# Altium footprint library MYLIB.PcbLib: 43 footprints (part 2 of 3)
Each footprint in its own frame and in the unit in brackets; x right, y up, seen from the top. Pads: shape width x height; smd on the part's side, far side on the other; paste and mask are expansions set on the pad; w line width, h text height; cw(c..) or ccw(c..) is an arc to the next point about the centre after c.
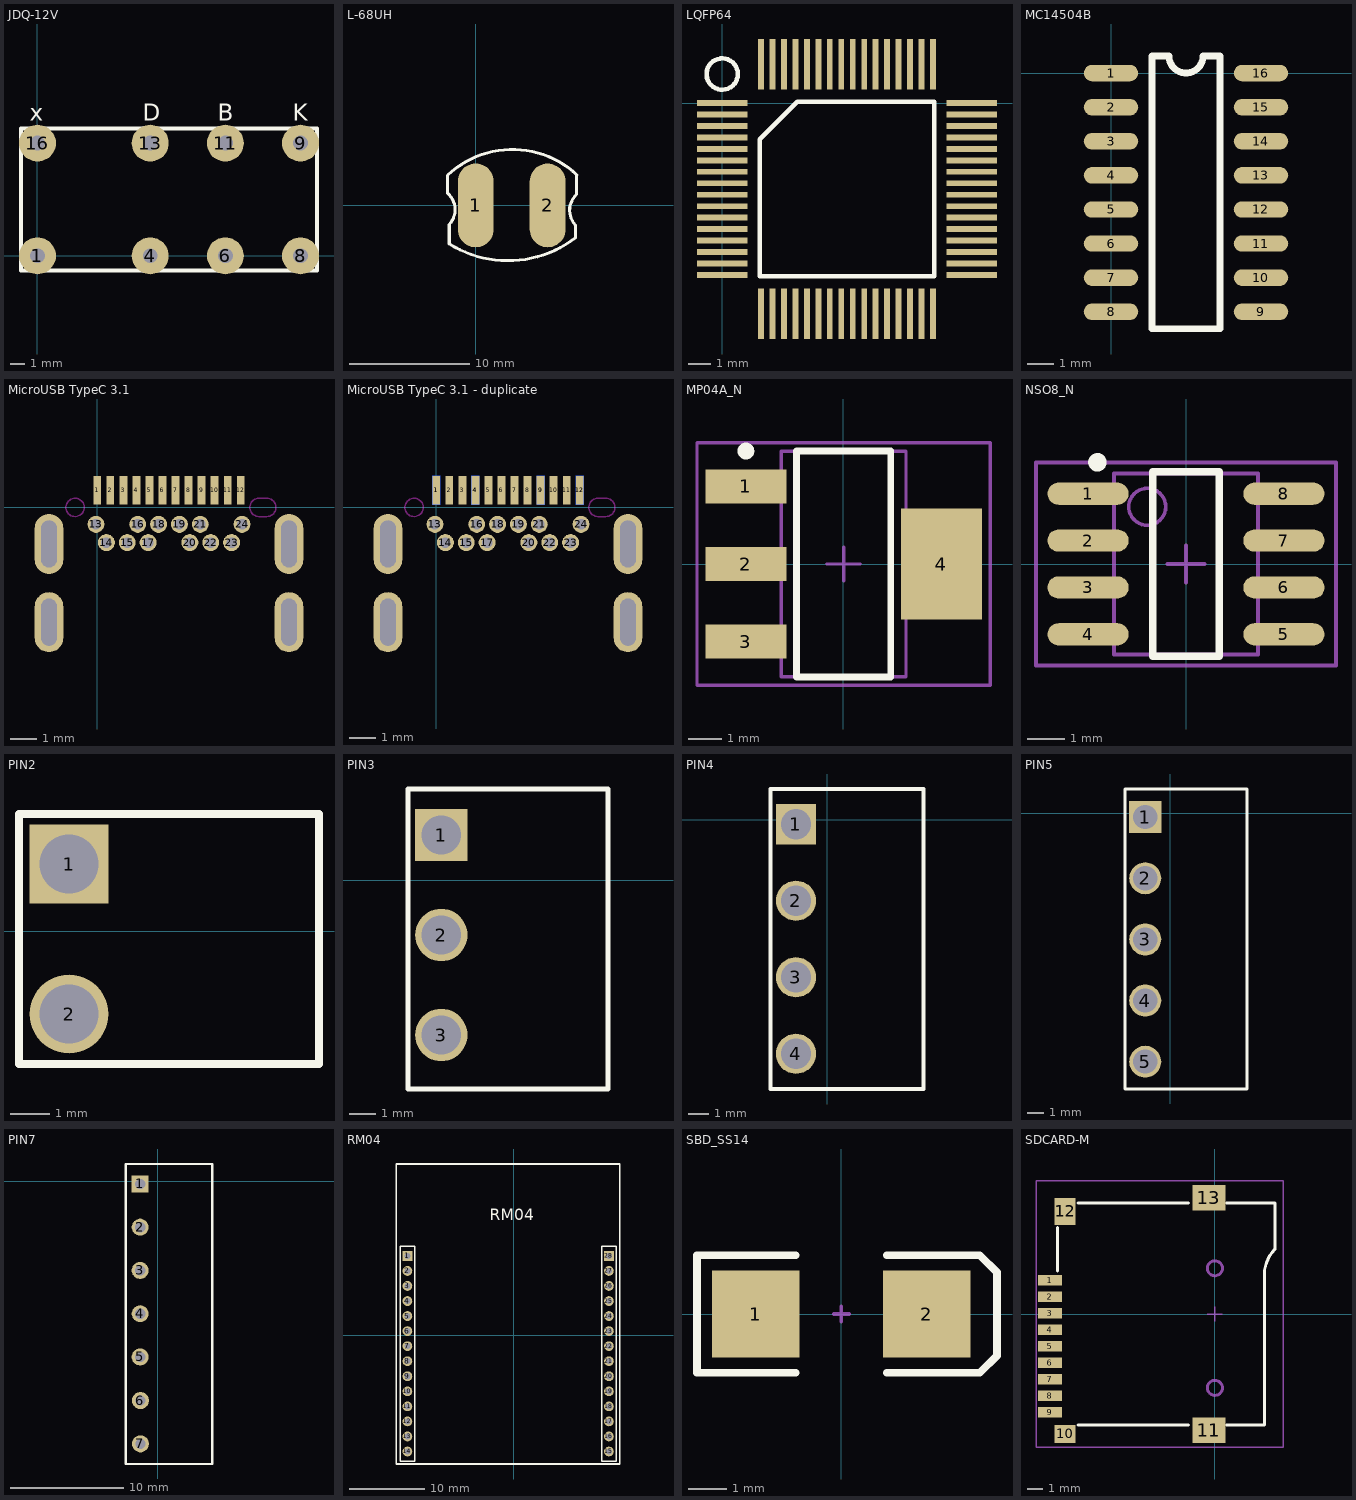
[diagram p1: the footprints below, top view; thin cyan lines are the x and y axes]

## JDQ-12V [mm]
pads (8):
  round 2.5 hole 1: 1(0,0) 4(7.62,0) 6(12.7,0) 8(17.78,0) 9(17.78,7.62) 11(12.7,7.62) 13(7.62,7.62) 16(0,7.62)
Top Overlay:
  lines w0.254: -1.11,-0.99 18.89,-0.99 18.89,8.61 -1.11,8.61 -1.11,-0.99
  text "x" at -0.508,9.144 h1.14
  text "D" at 7.112,9.144 h1.14
  text "K" at 17.272,9.144 h1.14
  text "B" at 12.192,9.144 h1.14

## L-68UH [mm]
pads (2):
  oval 3x7 smd: 1(0,0) 2(6,0)
Top Overlay:
  lines w0.254: -2.368,2.504 -2.368,1.057 cw(c-3.617,-0.351) -2.21,-1.6 -2.209,-3.205 ccw(c2.69,4.636) 8.311,-2.704 8.311,-1.626 cw(c9.629,-0.404) 8.407,0.914 8.411,2.578 ; -2.329,2.541 cw(c3.061,-3.238) 8.45,2.541

## LQFP64 [mm]
height 2.54
pads (64):
  rect 2.2x0.254 smd: 1(0,0) 2(0,-0.5) 3(0,-1) 4(0,-1.5) 5(0,-2) 6(0,-2.5) 7(0,-3) 8(0,-3.5) 9(0,-4) 10(0,-4.5) 11(0,-5) 12(0,-5.5) 13(0,-6) 14(0,-6.5) 15(0,-7) 16(0,-7.5) 33(10.9,-7.5) 34(10.9,-7) 35(10.9,-6.5) 36(10.9,-6) 37(10.9,-5.5) 38(10.9,-5) 39(10.9,-4.5) 40(10.9,-4) 41(10.9,-3.5) 42(10.9,-3) 43(10.9,-2.5) 44(10.9,-2) 45(10.9,-1.5) 46(10.9,-1) 47(10.9,-0.5) 48(10.9,0)
  rect 0.254x2.2 smd: 17(1.7,-9.2) 18(2.2,-9.2) 19(2.7,-9.2) 20(3.2,-9.2) 21(3.7,-9.2) 22(4.2,-9.2) 23(4.7,-9.2) 24(5.2,-9.2) 25(5.7,-9.2) 26(6.2,-9.2) 27(6.7,-9.2) 28(7.2,-9.2) 29(7.7,-9.2) 30(8.2,-9.2) 31(8.7,-9.2) 32(9.2,-9.2) 49(9.2,1.7) 50(8.7,1.7) 51(8.2,1.7) 52(7.7,1.7) 53(7.2,1.7) 54(6.7,1.7) 55(6.2,1.7) 56(5.7,1.7) 57(5.2,1.7) 58(4.7,1.7) 59(4.2,1.7) 60(3.7,1.7) 61(3.2,1.7) 62(2.7,1.7) 63(2.2,1.7) 64(1.7,1.7)
Top Overlay:
  circle w0.2: c0,1.27 r0.684
  lines w0.2: 1.635,-7.565 9.265,-7.565 9.265,0.065 3.27,0.065 1.635,-1.57 1.635,-7.565

## MC14504B [mil]
pads (16):
  oval 80x24 smd: 1(0,0) 2(0,-50) 3(0,-100) 4(0,-150) 5(0,-200) 6(0,-250) 7(0,-300) 8(0,-350) 9(220,-350) 10(220,-300) 11(220,-250) 12(220,-200) 13(220,-150) 14(220,-100) 15(220,-50) 16(220,0)
Top Overlay:
  lines w10: 60,-375 60,25 85,25 ccw(c110,25) 135,25 160,25 160,-375 60,-375

## MicroUSB TypeC 3.1 [mm]
pads (28):
  rect 0.3x1.1 smd: 1(0,0.66) 2(0.5,0.66) 3(1,0.66) 4(1.5,0.66) 5(2,0.66) 6(2.5,0.66) 7(3,0.66) 8(3.5,0.66) 9(4,0.66) 10(4.5,0.66) 11(5,0.66) 12(5.5,0.66)
  round 0.65 hole 0.4: 13(-0.05,-0.65) 14(0.35,-1.35) 15(1.15,-1.35) 16(1.55,-0.65) 17(1.95,-1.35) 18(2.35,-0.65) 19(3.15,-0.65) 20(3.55,-1.35) 21(3.95,-0.65) 22(4.35,-1.35) 23(5.15,-1.35) 24(5.55,-0.65)
  oval 1.1x2.3 hole 0.6 slot 1.8 at 90 deg: ""(-1.85,-4.4) ""(-1.85,-1.4) ""(7.35,-4.4) ""(7.35,-1.4)
Keep-Out Layer:
  circle w0.05: c-0.85,0 r0.35
  lines w0.05: 6.2,-0.35 cw(c6.2,0) 6.2,0.35 6.5,0.35 cw(c6.5,0) 6.5,-0.35 6.2,-0.35

## MicroUSB TypeC 3.1 - duplicate [mm]
pads (32):
  rect 0.3x1.1 smd: 1(0,0.66) 2(0.5,0.66) 3(1,0.66) 4(1.5,0.66) 5(2,0.66) 6(2.5,0.66) 7(3,0.66) 8(3.5,0.66) 9(4,0.66) 10(4.5,0.66) 11(5,0.66) 12(5.5,0.66)
  rect 0.3x1.1 smd far side: 1(0,0.66) 4(1.5,0.66) 9(4,0.66) 12(5.5,0.66)
  round 0.65 hole 0.4: 13(-0.05,-0.65) 14(0.35,-1.35) 15(1.15,-1.35) 16(1.55,-0.65) 17(1.95,-1.35) 18(2.35,-0.65) 19(3.15,-0.65) 20(3.55,-1.35) 21(3.95,-0.65) 22(4.35,-1.35) 23(5.15,-1.35) 24(5.55,-0.65)
  oval 1.1x2.3 hole 0.6 slot 1.8 at 90 deg: ""(-1.85,-4.4) ""(-1.85,-1.4) ""(7.35,-4.4) ""(7.35,-1.4)
Keep-Out Layer:
  circle w0.05: c-0.85,0 r0.35
  lines w0.05: 6.2,-0.35 cw(c6.2,0) 6.2,0.35 6.5,0.35 cw(c6.5,0) 6.5,-0.35 6.2,-0.35

## MP04A_N [mm]
pads (4):
  rect 2.4x1 smd: 1(-2.894,2.3) 2(-2.894,0) 3(-2.894,-2.3)
  rect 2.4x3.3 smd: 4(2.906,0)
Top Overlay:
  circle w0.25: c-2.894,3.35 r0.125
  lines w0.2: -1.394,-3.35 1.406,-3.35 1.406,3.35 -1.394,3.35 -1.394,-3.35
Mechanical 13:
  lines w0.1: -1.844,-3.35 1.856,-3.35 1.856,3.35 -1.844,3.35 -1.844,-3.35
Mechanical 15:
  lines w0.1: -0.494,0 0.506,0 ; 0.006,-0.5 0.006,0.5 ; -4.344,-3.6 4.356,-3.6 4.356,3.6 -4.344,3.6 -4.344,-3.6

## NSO8_N [mm] "SOIC-max660"
height 1.75
pads (8):
  oval 2.2x0.6 smd: 1(-2.654,1.905) 2(-2.654,0.635) 3(-2.654,-0.635) 4(-2.654,-1.905) 5(2.654,-1.905) 6(2.654,-0.635) 7(2.654,0.635) 8(2.654,1.905)
Top Overlay:
  circle w0.25: c-2.4,2.755 r0.125
  lines w0.2: -0.9,-2.5 -0.9,2.5 0.9,2.5 0.9,-2.5 -0.9,-2.5
Mechanical 13:
  circle w0.1: c-1.05,1.55 r0.5
  lines w0.1: -1.95,-2.45 -1.95,2.45 1.95,2.45 1.95,-2.45 -1.95,-2.45
Mechanical 15:
  lines w0.1: -0.5,0 0.5,0 ; 0,-0.5 0,0.5 ; -4.064,-2.75 -4.064,2.75 4.064,2.75 4.064,-2.75 -4.064,-2.75
3D body: height 1.75, standoff 0, extent -1.95,-2.45 1.95,2.45

## PIN2 [mm]
pads (2):
  rect 2x2 hole 1.5: 1(-7.874,1.702)
  round 2 hole 1.5: 2(-7.874,-2.108)
Top Overlay:
  lines w0.2: -1.524,-3.378 -9.144,-3.378 -9.144,2.972 -1.524,2.972 -1.524,-3.353

## PIN3 [mm]
pads (3):
  rect 2x2 hole 1.5: 1(5.537,1.727)
  round 2 hole 1.5: 2(5.537,-2.083) 3(5.537,-5.893)
Top Overlay:
  lines w0.2: 4.267,-7.95 4.267,3.48 11.887,3.48 11.887,-7.95 4.267,-7.95

## PIN4 [mm]
pads (4):
  rect 2x2 hole 1.5: 1(-1.549,-0.229)
  round 2 hole 1.5: 2(-1.549,-4.039) 3(-1.549,-7.849) 4(-1.549,-11.659)
Top Overlay:
  lines w0.2: -2.819,-13.411 -2.819,1.524 4.801,1.524 4.801,-13.411 -2.819,-13.411

## PIN5 [mm]
pads (5):
  rect 2x2 hole 1.5: 1(-1.549,-0.229)
  round 2 hole 1.5: 2(-1.549,-4.039) 3(-1.549,-7.849) 4(-1.549,-11.659) 5(-1.549,-15.469)
Top Overlay:
  lines w0.2: -2.819,-17.17 4.801,-17.17 4.801,1.524 -2.819,1.524 -2.819,-17.17

## PIN7 [mm]
pads (7):
  rect 1.5x1.5 hole 0.9: 1(-1.549,-0.229)
  round 1.5 hole 0.9: 2(-1.549,-4.039) 3(-1.549,-7.849) 4(-1.549,-11.659) 5(-1.549,-15.469) 6(-1.524,-19.304) 7(-1.524,-23.114)
Top Overlay:
  lines w0.2: -2.819,-24.892 4.801,-24.892 4.801,1.524 -2.819,1.524 -2.819,-24.892

## RM04 [mm]
pads (28):
  rect 1.3x1.3 hole 0.8: 1(-14.135,10.519) 28(12.646,10.519)
  round 1.3 hole 0.8: 2(-14.135,8.519) 3(-14.135,6.519) 4(-14.135,4.519) 5(-14.135,2.519) 6(-14.135,0.519) 7(-14.135,-1.481) 8(-14.135,-3.481) 9(-14.135,-5.481) 10(-14.135,-7.481) 11(-14.135,-9.481) 12(-14.135,-11.481) 13(-14.135,-13.481) 14(-14.135,-15.481) 15(12.646,-15.481) 16(12.646,-13.481) 17(12.646,-11.481) 18(12.646,-9.481) 19(12.646,-7.481) 20(12.646,-5.481) 21(12.646,-3.481) 22(12.646,-1.481) 23(12.646,0.519) 24(12.646,2.519) 25(12.646,4.519) 26(12.646,6.519) 27(12.646,8.519)
Top Overlay:
  lines w0.2: -15.081,-16.781 -13.181,-16.781 -13.181,11.789 -15.081,11.789 -15.081,-16.781 ; 11.7,-16.781 13.6,-16.781 13.6,11.789 11.7,11.789 11.7,-16.781
  lines w0.254: -15.621,-17.145 14.097,-17.145 14.097,22.733 -15.621,22.733 -15.621,-17.145
  text "RM04" at -3.175,15.24 h1.52

## SBD_SS14 [mm] "DO-214-AA/SMB; 2 C-Bend Leads; Body 5.3 x 3.6 mm, inc. leads (LxW)"
height 2.54
pads (2):
  rect 2.3x2.3 smd: 1(-2.25,0) 2(2.25,0)
Top Overlay:
  lines w0.2: -1.2,-1.55 -3.8,-1.55 -3.8,1.55 -1.2,1.55 ; 1.2,-1.55 3.65,-1.55 4.1,-1.1 4.1,1.1 3.65,1.55 1.2,1.55
Mechanical 1:
  lines w0.1: -0.2,0 0.2,0 ; 0,-0.2 0,0.2

## SDCARD-M [mm] "TF卡"
height 1.5
pads (13):
  rect 1.6x0.7 smd: 1(-11.008,2.25) 2(-11.008,1.15) 3(-11.008,0.05) 4(-11.008,-1.05) 5(-11.008,-2.15) 6(-11.008,-3.25) 7(-11.008,-4.35) 8(-11.008,-5.45) 9(-11.008,-6.55)
  rect 1.4x1.2 smd: 10(-10,-8.004)
  rect 2.2x1.7 smd: 11(-0.4,-7.75) 13(-0.4,7.75)
  rect 1.4x1.8 smd: 12(-10,6.85)
Top Overlay:
  lines w0.2: -10.5,2.88 -10.5,5.756 ; -9.144,-7.4 -1.778,-7.4 ; -9.144,7.4 -1.778,7.4 ; 0.762,-7.4 3.3,-7.4 3.3,1.016 ; 0.762,7.4 4,7.4 4,4.318 ccw(c5.69,2.628) 3.3,2.628 3.3,0.762
Mechanical 1:
  circle w0.2: c0,-4.93 r0.5
  circle w0.2: c0,3.05 r0.5
Mechanical 15:
  lines w0.1: -0.5,0 0.5,0 ; 0,-0.5 0,0.5 ; -11.938,-8.89 4.572,-8.89 4.572,8.89 -11.938,8.89 -11.938,-8.89